# Altium schematic symbol library SamacSys.SchLib: 12 symbols
Pins are listed as number, name and electrical type; pins without a type are passive.

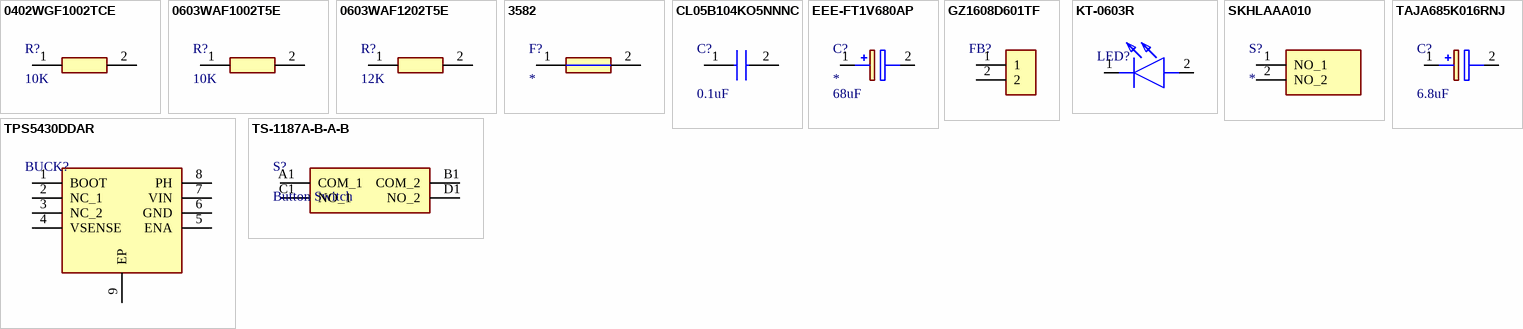
[diagram p0: symbols 0402WGF1002TCE to TS-1187A-B-A-B]

## 0402WGF1002TCE
designator R?, comment value 10K  (hidden comment: 10K Resistor 0402 62.5mW)
Manufacturer_Name: UNI-ROYAL(Uniroyal Elec); Manufacturer_Part_Number: 0402WGF1002TCE; Datasheet Link: https://datasheet.lcsc.com/szlcsc/Uniroyal-Elec-0402WGF1002TCE_C25744.pdf; Height: 0.4mm
footprint RESC1005X40N
pins: 1, 2

## 0603WAF1002T5E
designator R?, comment value 10K  (hidden comment: 10K Resistor 0603 100mW)
Manufacturer_Name: UNI-ROYAL(Uniroyal Elec); Manufacturer_Part_Number: 0603WAF1002T5E; Datasheet Link: https://datasheet.lcsc.com/szlcsc/Uniroyal-Elec-0603WAF1002T5E_C25804.pdf; Height: 0.55mm
footprint RESC1608X55N
pins: 1, 2

## 0603WAF1202T5E
designator R?, comment value 12K  (hidden comment: 12K Resistor 0603 100mW)
Manufacturer_Name: ROYALOHM; Manufacturer_Part_Number: 0603WAF1202T5E; Datasheet Link: https://www.mouser.com/datasheet/2/1365/1-3044649.pdf; Height: 0.55mm; Mouser Part Number: 303-0603WAF1202T5E; Mouser Price/Stock: https://www.mouser.co.uk/ProductDetail/Royalohm/0603WAF1202T5E?qs=e8oIoAS2J1Rv1QXdgHhf0w%3D%3D
footprint RESC1608X55N
pins: 1, 2

## 3582
designator F?
Fuse; Manufacturer_Name: Keystone Electronics; Manufacturer_Part_Number: 3582; Datasheet Link: https://ken.keyeuro.eu/pdf/3582.pdf; Height: 14.23mm; Mouser Part Number: 534-3582; Mouser Price/Stock: https://www.mouser.co.uk/ProductDetail/Keystone-Electronics/3582?qs=T%252BzbugeAwjg6ulzRraysCw%3D%3D
footprint 3582
pins: 1, 2

## CL05B104KO5NNNC
designator C?, comment value 0.1uF  (hidden comment: 0.1uF Ceramic Capacitor)
Manufacturer_Name: SAMSUNG; Manufacturer_Part_Number: CL05B104KO5NNNC; Datasheet Link: https://datasheet.datasheetarchive.com/originals/distributors/Datasheets-DGA10/2408147.pdf; Height: 0.55mm; Mouser Part Number: 187-CL05B104KO5NNNC; Mouser Price/Stock: https://www.mouser.co.uk/ProductDetail/Samsung-Electro-Mechanics/CL05B104KO5NNNC?qs=hqM3L16%252BxlfT2SKOuAUq6Q%3D%3D; Arrow Part Number: CL05B104KO5NNNC; Arrow Price/Stock: https://www.arrow.com/en/products/cl05b104ko5nnnc/samsung-electro-mechanics?utm_currency=USD&region=europe
footprint CAPC1005X55N
pins: 1, 2

## EEE-FT1V680AP
designator C?  Parameter 1: 68uF
68uF Electrolytic Capacitor 35V Polarised; Manufacturer_Name: Panasonic; Manufacturer_Part_Number: EEE-FT1V680AP; Description: PANASONIC - EEE-FT1V680AP - CAPACITOR ALUM ELEC; Datasheet Link: http://industrial.panasonic.com/cdbs/www-data/pdf/RDE0000/ABA0000C1240.pdf; Height: 7.8mm; Mouser Part Number: 667-EEE-FT1V680AP; Mouser Price/Stock: https://www.mouser.co.uk/ProductDetail/Panasonic/EEE-FT1V680AP?qs=CMJjuEs1%252BuFRKaDfhhC1yw%3D%3D; Arrow Part Number: EEE-FT1V680AP; Arrow Price/Stock: https://www.arrow.com/en/products/eee-ft1v680ap/panasonic?region=nac
footprint EEE1AA101SP
pins: 1 +, 2 -

## GZ1608D601TF
designator FB?, comment Ferrite Bead  (value not drawn)
Manufacturer_Name: SUNLORD; Manufacturer_Part_Number: GZ1608D601TF; Datasheet Link: https://datasheet.lcsc.com/szlcsc/Sunlord-GZ1608D601TF_C1002.pdf; Height: 0.95mm
footprint BEADC1608X95N
pins: 1, 2

## KT-0603R
designator LED?, comment Red LED  (value not drawn)
Manufacturer_Name: Hubei KENTO Elec; Manufacturer_Part_Number: KT-0603R; Datasheet Link: https://datasheet.lcsc.com/szlcsc/Hubei-KENTO-Elec-KT-0603R_C2286.pdf; Height: 0.7mm
footprint LEDC1608X70N (Footprint not found)
pins: 1 K, 2 A

## SKHLAAA010
designator S?
Switch; Manufacturer_Name: ALPS Electric; Manufacturer_Part_Number: SKHLAAA010; Datasheet Link: https://datasheet.lcsc.com/szlcsc/2005150036_ALPS-Electric-SKHLAAA010_C470263.pdf; Height: 4.3mm; Mouser Part Number: 688-SKHLAA; Mouser Price/Stock: https://www.mouser.co.uk/ProductDetail/Alps-Alpine/SKHLAAA010?qs=fMKjfF2mFoi%2FHujxBOY8gw%3D%3D
footprint SKHLAAA010
pins: 1 NO_1, 2 NO_2

## TAJA685K016RNJ
designator C?, comment value 6.8uF  (hidden comment: 6.8uF Tantalum Capacitor)
Manufacturer_Name: Kyocera AVX; Manufacturer_Part_Number: TAJA685K016RNJ; Datasheet Link: http://www.farnell.com/datasheets/1680476.pdf; Height: 1.8mm; Mouser Part Number: 581-TAJA685K016R; Mouser Price/Stock: https://www.mouser.co.uk/ProductDetail/AVX/TAJA685K016RNJ?qs=fdqkYiOtZpchoAdF1thM2A%3D%3D
footprint CAPPM3216X180N
pins: 1 +, 2 -

## TPS5430DDAR
designator BUCK?, comment Buck Converter  (value not drawn)
Manufacturer_Name: Texas Instruments; Manufacturer_Part_Number: TPS5430DDAR; Datasheet Link: http://www.ti.com/lit/gpn/tps5430; Height: 1.7mm; Mouser Part Number: 595-TPS5430DDAR; Mouser Price/Stock: https://www.mouser.co.uk/ProductDetail/Texas-Instruments/TPS5430DDAR?qs=zwk82MlA57ZJdOTovH1aYA%3D%3D; Arrow Part Number: TPS5430DDAR; Arrow Price/Stock: https://www.arrow.com/en/products/tps5430ddar/texas-instruments?region=nac
footprint SOIC127P600X170-9N
pins: 1 BOOT, 2 NC_1, 3 NC_2, 4 VSENSE, 5 ENA, 6 GND, 7 VIN, 8 PH, 9 EP

## TS-1187A-B-A-B
designator S?, comment Button Switch
Manufacturer_Name: XKB Connectivity; Manufacturer_Part_Number: TS-1187A-B-A-B; Datasheet Link: http://www.helloxkb.com/public/images/pdf/TS-1187A-X-X-X.pdf; Height: 4.05mm
footprint TS1187ABAB
pins: A1 COM_1, B1 COM_2, C1 NO_1, D1 NO_2